# Altium footprint library 150060VS55040.PcbLib: 1 footprints
Each footprint in its own frame and in the unit in brackets; x right, y up, seen from the top. Pads: shape width x height; smd on the part's side, far side on the other; paste and mask are expansions set on the pad; w line width, h text height; cw(c..) or ccw(c..) is an arc to the next point about the centre after c.
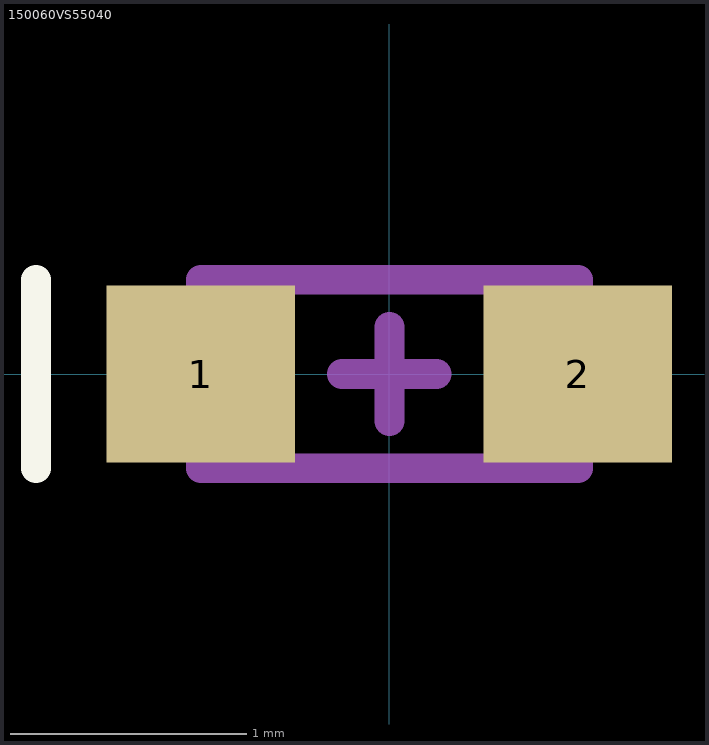
[diagram p0: the footprint, top view; thin cyan lines are the x and y axes]

## 150060VS55040 [mm]
height 0.4
pads (2):
  rect 0.8x0.75 smd mask+0.051: 1(-0.8,0) 2(0.8,0)
Top Overlay:
  lines w0.127: -1.5,-0.4 -1.5,0.4
Mechanical 13 (Mech13):
  lines w0.127: -0.8,-0.4 -0.8,0.4 0.8,0.4 0.8,-0.4 -0.8,-0.4
Mechanical 15:
  lines w0.127: -0.2,0 0,0 ; 0,-0.2 0,0 ; 0,0.2 0,0 ; 0.2,0 0,0
3D body "150060BS55040.stp": height 0.4, standoff 0, extent -0.8,-0.4 0.8,0.4